# EAGLE library part SWITCH-KM-04 (library Discrete)
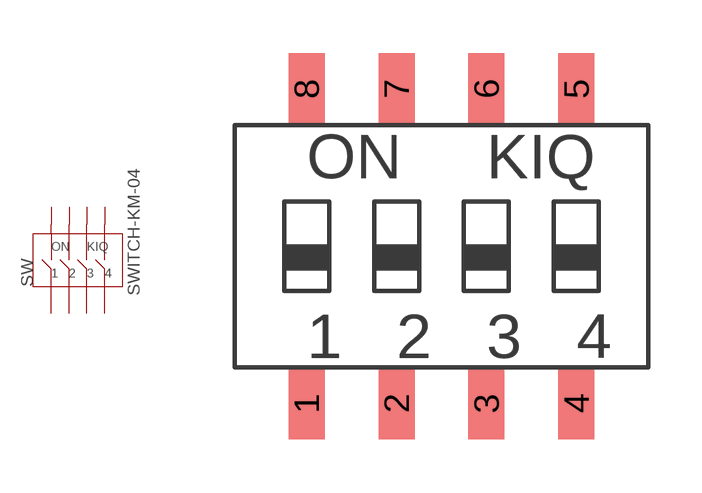
[diagram p16: symbol with the pads of 8P-SMD-11.8X6.8X3.3H; footprint 8P-SMD-11.8X6.8X3.3H]

Designator prefix SW

## SWITCH-KM-04'KM-04'  [8P-SMD-11.8X6.8X3.3H]
1  1
2  2
3  3
4  4
5  5
6  6
7  7
8  8

## Footprint 8P-SMD-11.8X6.8X3.3H (pad centres in mm)
smd 1.016 x 2.032: 1 -3.81,-4.445; 2 -1.27,-4.445; 3 1.27,-4.445; 4 3.81,-4.445; 5 3.81,4.445; 6 1.27,4.445; 7 -1.27,4.445; 8 -3.81,4.445